# Altium integrated library Lattice SPLD GAL.IntLib: 360 symbols (part 4 of 9)
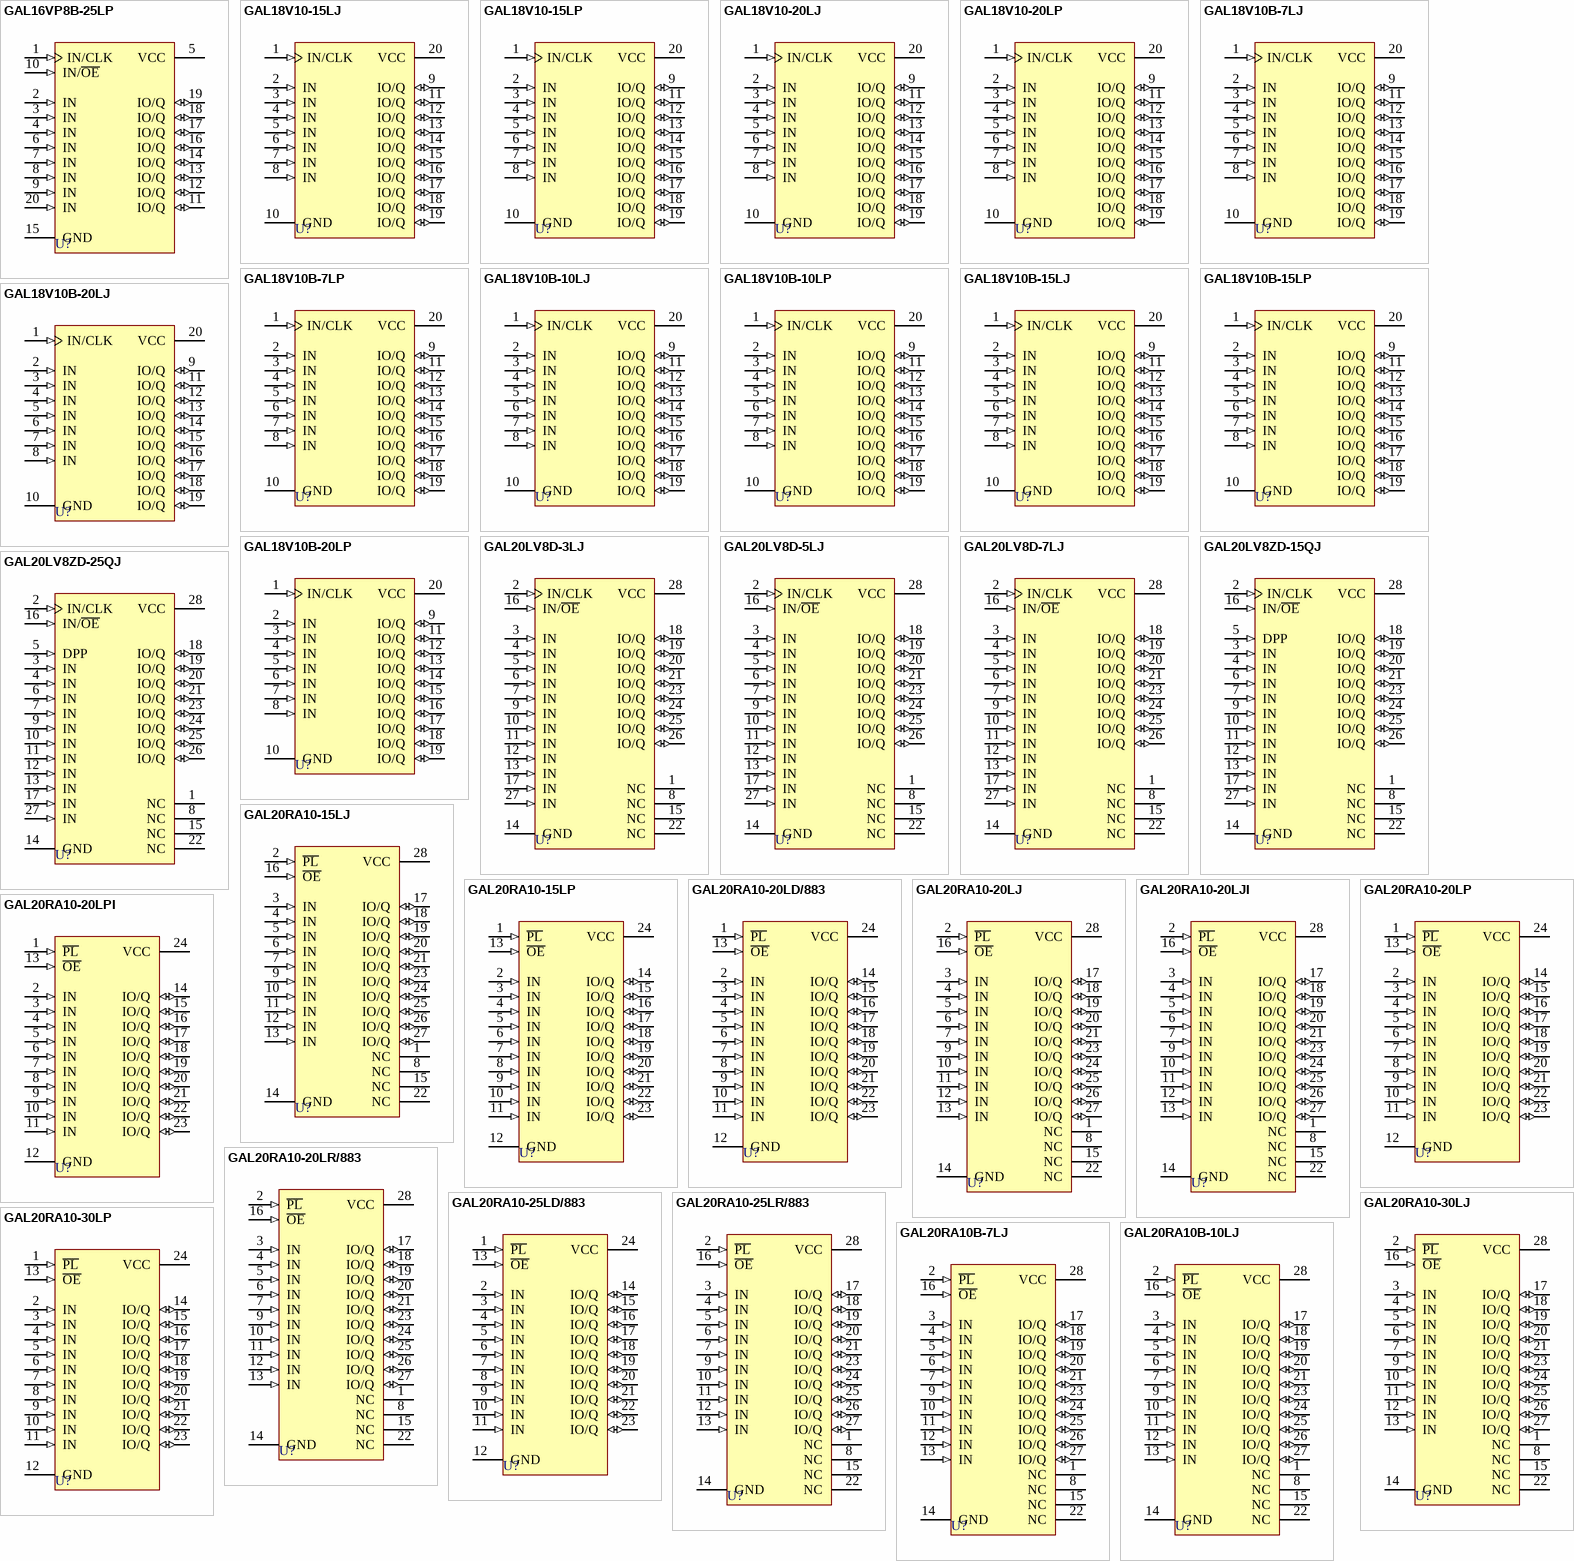
[diagram p16: symbols GAL16VP8B-25LP to GAL20RA10B-10LJ]

## GAL20LV8D-3LJ
designator U?
GAL20LV8 E²CMOS PLD Generic Array Logic: 3.3 V, 3.5 ns, Commercial Grade; Published: 17-Jul-2002; LatestRevisionDate: 13-Apr-2006; LatestRevisionNote: IPC-7351 Footprint Added.; DatasheetVersion: 20lv8_05, Mar-2000; PackageVersion: pkg_32, Aug-2005; PackageReference: PLCC28; Publisher: Altium Limited; PackageDescription: 28-Pin Leaded Chip Carrier 1.27 mm Pitch; Code_IPC: PLCC-28; ComponentLink1Description: Manufacturer Link; ComponentLink1URL: http://www.latticesemi.com/products/spld/GAL/index.cfm; ComponentLink2Description: Datasheet; ComponentLink2URL: http://www.latticesemi.com/lit/docs/datasheets/pal_gal/20lv8.pdf
footprint PLCC28_N (Leaded Chip Carrier, 28-Leads, Body 11.5x11.5mm, Pitch 1.27mm, IPC Medium Density)
footprint PLCC28_L (Leaded Chip Carrier, 28-Leads, Body 11.5x11.5mm, Pitch 1.27mm, IPC High Density)
footprint PLCC28_M (Leaded Chip Carrier, 28-Leads, Body 11.5x11.5mm, Pitch 1.27mm, IPC Low Density)
3D model 20LV8-PLCC28 (28-Pin Leaded Chip Carrier 1.27 mm Pitch)
pins: 1 NC, 2 IN/CLK (in), 3 IN (in), 4 IN (in), 5 IN (in), 6 IN (in), 7 IN (in), 8 NC, 9 IN (in), 10 IN (in), 11 IN (in), 12 IN (in), 13 IN (in), 14 GND (power), 15 NC, 16 IN/~{OE} (in), 17 IN (in), 18 IO/Q (io), 19 IO/Q (io), 20 IO/Q (io), 21 IO/Q (io), 22 NC, 23 IO/Q (io), 24 IO/Q (io), 25 IO/Q (io), 26 IO/Q (io), 27 IN (in), 28 VCC (power)

## GAL20LV8D-5LJ
designator U?
GAL20LV8 E²CMOS PLD Generic Array Logic: 3.3 V, 5.0 ns, Commercial Grade; Published: 17-Jul-2002; LatestRevisionDate: 13-Apr-2006; LatestRevisionNote: IPC-7351 Footprint Added.; DatasheetVersion: 20lv8_05, Mar-2000; PackageVersion: pkg_32, Aug-2005; PackageReference: PLCC28; Publisher: Altium Limited; PackageDescription: 28-Pin Leaded Chip Carrier 1.27 mm Pitch; Code_IPC: PLCC-28; ComponentLink1Description: Manufacturer Link; ComponentLink1URL: http://www.latticesemi.com/products/spld/GAL/index.cfm; ComponentLink2Description: Datasheet; ComponentLink2URL: http://www.latticesemi.com/lit/docs/datasheets/pal_gal/20lv8.pdf
footprint PLCC28_N (Leaded Chip Carrier, 28-Leads, Body 11.5x11.5mm, Pitch 1.27mm, IPC Medium Density)
footprint PLCC28_L (Leaded Chip Carrier, 28-Leads, Body 11.5x11.5mm, Pitch 1.27mm, IPC High Density)
footprint PLCC28_M (Leaded Chip Carrier, 28-Leads, Body 11.5x11.5mm, Pitch 1.27mm, IPC Low Density)
3D model 20LV8-PLCC28 (28-Pin Leaded Chip Carrier 1.27 mm Pitch)
pins: 1 NC, 2 IN/CLK (in), 3 IN (in), 4 IN (in), 5 IN (in), 6 IN (in), 7 IN (in), 8 NC, 9 IN (in), 10 IN (in), 11 IN (in), 12 IN (in), 13 IN (in), 14 GND (power), 15 NC, 16 IN/~{OE} (in), 17 IN (in), 18 IO/Q (io), 19 IO/Q (io), 20 IO/Q (io), 21 IO/Q (io), 22 NC, 23 IO/Q (io), 24 IO/Q (io), 25 IO/Q (io), 26 IO/Q (io), 27 IN (in), 28 VCC (power)

## GAL20LV8D-7LJ
designator U?
GAL20LV8 E²CMOS PLD Generic Array Logic: 3.3 V, 7.5 ns, Commercial Grade; Published: 17-Jul-2002; LatestRevisionDate: 13-Apr-2006; LatestRevisionNote: IPC-7351 Footprint Added.; DatasheetVersion: 20lv8_05, Mar-2000; PackageVersion: pkg_32, Aug-2005; PackageReference: PLCC28; Publisher: Altium Limited; PackageDescription: 28-Pin Leaded Chip Carrier 1.27 mm Pitch; Code_IPC: PLCC-28; ComponentLink1Description: Manufacturer Link; ComponentLink1URL: http://www.latticesemi.com/products/spld/GAL/index.cfm; ComponentLink2Description: Datasheet; ComponentLink2URL: http://www.latticesemi.com/lit/docs/datasheets/pal_gal/20lv8.pdf
footprint PLCC28_N (Leaded Chip Carrier, 28-Leads, Body 11.5x11.5mm, Pitch 1.27mm, IPC Medium Density)
footprint PLCC28_L (Leaded Chip Carrier, 28-Leads, Body 11.5x11.5mm, Pitch 1.27mm, IPC High Density)
footprint PLCC28_M (Leaded Chip Carrier, 28-Leads, Body 11.5x11.5mm, Pitch 1.27mm, IPC Low Density)
3D model 20LV8-PLCC28 (28-Pin Leaded Chip Carrier 1.27 mm Pitch)
pins: 1 NC, 2 IN/CLK (in), 3 IN (in), 4 IN (in), 5 IN (in), 6 IN (in), 7 IN (in), 8 NC, 9 IN (in), 10 IN (in), 11 IN (in), 12 IN (in), 13 IN (in), 14 GND (power), 15 NC, 16 IN/~{OE} (in), 17 IN (in), 18 IO/Q (io), 19 IO/Q (io), 20 IO/Q (io), 21 IO/Q (io), 22 NC, 23 IO/Q (io), 24 IO/Q (io), 25 IO/Q (io), 26 IO/Q (io), 27 IN (in), 28 VCC (power)

## GAL20LV8ZD-15QJ
designator U?
GAL20LV8ZD E²CMOS PLD Generic Array Logic: Zero Power, 3.3 V, 15 ns, Commercial Grade; Published: 17-Jul-2002; LatestRevisionDate: 13-Apr-2006; LatestRevisionNote: IPC-7351 Footprint Added.; DatasheetVersion: 20lv8zd_03, Dec-1997; PackageVersion: pkg_32, Aug-2005; PackageReference: PLCC28; Publisher: Altium Limited; PackageDescription: 28-Pin Leaded Chip Carrier 1.27 mm Pitch; Code_IPC: PLCC-28; ComponentLink1Description: Manufacturer Link; ComponentLink1URL: http://www.latticesemi.com/products/spld/GAL/index.cfm; ComponentLink2Description: Datasheet; ComponentLink2URL: http://www.latticesemi.com/lit/docs/datasheets/pal_gal/16lv8zd.pdf
footprint PLCC28_N (Leaded Chip Carrier, 28-Leads, Body 11.5x11.5mm, Pitch 1.27mm, IPC Medium Density)
footprint PLCC28_L (Leaded Chip Carrier, 28-Leads, Body 11.5x11.5mm, Pitch 1.27mm, IPC High Density)
footprint PLCC28_M (Leaded Chip Carrier, 28-Leads, Body 11.5x11.5mm, Pitch 1.27mm, IPC Low Density)
3D model 20LV8ZD-PLCC28 (28-Pin Leaded Chip Carrier 1.27 mm Pitch)
pins: 1 NC, 2 IN/CLK (in), 3 IN (in), 4 IN (in), 5 DPP (in), 6 IN (in), 7 IN (in), 8 NC, 9 IN (in), 10 IN (in), 11 IN (in), 12 IN (in), 13 IN (in), 14 GND (power), 15 NC, 16 IN/~{OE} (in), 17 IN (in), 18 IO/Q (io), 19 IO/Q (io), 20 IO/Q (io), 21 IO/Q (io), 22 NC, 23 IO/Q (io), 24 IO/Q (io), 25 IO/Q (io), 26 IO/Q (io), 27 IN (in), 28 VCC (power)

## GAL20LV8ZD-25QJ
designator U?
GAL20LV8ZD E²CMOS PLD Generic Array Logic: Zero Power, 3.3 V, 25 ns, Commercial Grade; Published: 17-Jul-2002; LatestRevisionDate: 13-Apr-2006; LatestRevisionNote: IPC-7351 Footprint Added.; DatasheetVersion: 20lv8zd_03, Dec-1997; PackageVersion: pkg_32, Aug-2005; PackageReference: PLCC28; Publisher: Altium Limited; PackageDescription: 28-Pin Leaded Chip Carrier 1.27 mm Pitch; Code_IPC: PLCC-28; ComponentLink1Description: Manufacturer Link; ComponentLink1URL: http://www.latticesemi.com/products/spld/GAL/index.cfm; ComponentLink2Description: Datasheet; ComponentLink2URL: http://www.latticesemi.com/lit/docs/datasheets/pal_gal/16lv8zd.pdf
footprint PLCC28_N (Leaded Chip Carrier, 28-Leads, Body 11.5x11.5mm, Pitch 1.27mm, IPC Medium Density)
footprint PLCC28_L (Leaded Chip Carrier, 28-Leads, Body 11.5x11.5mm, Pitch 1.27mm, IPC High Density)
footprint PLCC28_M (Leaded Chip Carrier, 28-Leads, Body 11.5x11.5mm, Pitch 1.27mm, IPC Low Density)
3D model 20LV8ZD-PLCC28 (28-Pin Leaded Chip Carrier 1.27 mm Pitch)
pins: 1 NC, 2 IN/CLK (in), 3 IN (in), 4 IN (in), 5 DPP (in), 6 IN (in), 7 IN (in), 8 NC, 9 IN (in), 10 IN (in), 11 IN (in), 12 IN (in), 13 IN (in), 14 GND (power), 15 NC, 16 IN/~{OE} (in), 17 IN (in), 18 IO/Q (io), 19 IO/Q (io), 20 IO/Q (io), 21 IO/Q (io), 22 NC, 23 IO/Q (io), 24 IO/Q (io), 25 IO/Q (io), 26 IO/Q (io), 27 IN (in), 28 VCC (power)

## GAL20RA10-15LJ
designator U?
GAL20RA10 High Speed Asynchronous E²CMOS PLD Generic Array Logic: 5.0 V, 15 ns, Commercial Grade; Note: Pins 1, 8, 15 and 22 are No internal Connection (NC) pins.; Published: 8-Jun-2000; LatestRevisionDate: 13-Apr-2006; LatestRevisionNote: IPC-7351 Footprint Added.; DatasheetVersion: 1994; PackageVersion: pkg_32, Aug-2005; PackageReference: PLCC28; Publisher: Altium Limited; PackageDescription: 28-Pin Leaded Chip Carrier 1.27 mm Pitch; Code_IPC: PLCC-28; ComponentLink1Description: Manufacturer Link; ComponentLink1URL: http://www.latticesemi.com/products/spld/GAL/index.cfm
footprint PLCC28_N (Leaded Chip Carrier, 28-Leads, Body 11.5x11.5mm, Pitch 1.27mm, IPC Medium Density)
footprint PLCC28_L (Leaded Chip Carrier, 28-Leads, Body 11.5x11.5mm, Pitch 1.27mm, IPC High Density)
footprint PLCC28_M (Leaded Chip Carrier, 28-Leads, Body 11.5x11.5mm, Pitch 1.27mm, IPC Low Density)
3D model 20RA10-PLCC28 (28-Pin Leaded Chip Carrier 1.27 mm Pitch)
pins: 1 NC, 2 ~{PL} (in), 3 IN (in), 4 IN (in), 5 IN (in), 6 IN (in), 7 IN (in), 8 NC, 9 IN (in), 10 IN (in), 11 IN (in), 12 IN (in), 13 IN (in), 14 GND (power), 15 NC, 16 ~{OE} (in), 17 IO/Q (io), 18 IO/Q (io), 19 IO/Q (io), 20 IO/Q (io), 21 IO/Q (io), 22 NC, 23 IO/Q (io), 24 IO/Q (io), 25 IO/Q (io), 26 IO/Q (io), 27 IO/Q (io), 28 VCC (power)

## GAL20RA10-15LP
designator U?
GAL20RA10 High Speed Asynchronous E²CMOS PLD Generic Array Logic: 5.0 V, 15 ns, Commercial Grade; Published: 8-Jun-2000; LatestRevisionDate: 04-Mar-2005; LatestRevisionNote: Stylized 3D Model Added.; DatasheetVersion: 1994; PackageVersion: pkg_32, Aug-2005; PackageReference: PDIP24; Publisher: Altium Limited; PackageDescription: DIP; 24 Leads; Row Spacing 7.62 mm; Pitch 2.54 mm; Code_JEDEC: MS-001-AF; ComponentLink1Description: Manufacturer Link; ComponentLink1URL: http://www.latticesemi.com/products/spld/GAL/index.cfm
footprint PDIP24 (DIP; 24 Leads; Row Spacing 7.62 mm; Pitch 2.54 mm)
3D model DIP24 (DIP; 24 Leads; Row Spacing 7.62 mm; Pitch 2.54 mm)
pins: 1 ~{PL} (in), 2 IN (in), 3 IN (in), 4 IN (in), 5 IN (in), 6 IN (in), 7 IN (in), 8 IN (in), 9 IN (in), 10 IN (in), 11 IN (in), 12 GND (power), 13 ~{OE} (in), 14 IO/Q (io), 15 IO/Q (io), 16 IO/Q (io), 17 IO/Q (io), 18 IO/Q (io), 19 IO/Q (io), 20 IO/Q (io), 21 IO/Q (io), 22 IO/Q (io), 23 IO/Q (io), 24 VCC (power)

## GAL20RA10-20LD/883
designator U?
GAL20RA10/883 High Speed Asynchronous E²CMOS PLD Generic Array Logic: 5.0 V, 20 ns, Military Grade; Published: 8-Jun-2000; LatestRevisionDate: 04-Mar-2005; LatestRevisionNote: Stylized 3D Model Added.; DatasheetVersion: May-1992; PackageVersion: pkg_32, Aug-2005; PackageReference: CDIP24; Publisher: Altium Limited; PackageDescription: CerDIP; 24 Leads; Row Spacing 7.62 mm; Pitch 2.54 mm; Code_JEDEC: MS-001-AF; ComponentLink1Description: Manufacturer Link; ComponentLink1URL: http://www.latticesemi.com/products/spld/GAL/index.cfm
footprint CDIP24 (CerDIP; 24 Leads; Row Spacing 7.62 mm; Pitch 2.54 mm)
3D model DIP24 (CerDIP; 24 Leads; Row Spacing 7.62 mm; Pitch 2.54 mm)
pins: 1 ~{PL} (in), 2 IN (in), 3 IN (in), 4 IN (in), 5 IN (in), 6 IN (in), 7 IN (in), 8 IN (in), 9 IN (in), 10 IN (in), 11 IN (in), 12 GND (power), 13 ~{OE} (in), 14 IO/Q (io), 15 IO/Q (io), 16 IO/Q (io), 17 IO/Q (io), 18 IO/Q (io), 19 IO/Q (io), 20 IO/Q (io), 21 IO/Q (io), 22 IO/Q (io), 23 IO/Q (io), 24 VCC (power)

## GAL20RA10-20LJ
designator U?
GAL20RA10 High Speed Asynchronous E²CMOS PLD Generic Array Logic: 5.0 V, 20 ns, Commercial Grade; Note: Pins 1, 8, 15 and 22 are No internal Connection (NC) pins.; Published: 8-Jun-2000; LatestRevisionDate: 13-Apr-2006; LatestRevisionNote: IPC-7351 Footprint Added.; DatasheetVersion: 1994; PackageVersion: pkg_32, Aug-2005; PackageReference: PLCC28; Publisher: Altium Limited; PackageDescription: 28-Pin Leaded Chip Carrier 1.27 mm Pitch; Code_IPC: PLCC-28; ComponentLink1Description: Manufacturer Link; ComponentLink1URL: http://www.latticesemi.com/products/spld/GAL/index.cfm
footprint PLCC28_N (Leaded Chip Carrier, 28-Leads, Body 11.5x11.5mm, Pitch 1.27mm, IPC Medium Density)
footprint PLCC28_L (Leaded Chip Carrier, 28-Leads, Body 11.5x11.5mm, Pitch 1.27mm, IPC High Density)
footprint PLCC28_M (Leaded Chip Carrier, 28-Leads, Body 11.5x11.5mm, Pitch 1.27mm, IPC Low Density)
3D model 20RA10-PLCC28 (28-Pin Leaded Chip Carrier 1.27 mm Pitch)
pins: 1 NC, 2 ~{PL} (in), 3 IN (in), 4 IN (in), 5 IN (in), 6 IN (in), 7 IN (in), 8 NC, 9 IN (in), 10 IN (in), 11 IN (in), 12 IN (in), 13 IN (in), 14 GND (power), 15 NC, 16 ~{OE} (in), 17 IO/Q (io), 18 IO/Q (io), 19 IO/Q (io), 20 IO/Q (io), 21 IO/Q (io), 22 NC, 23 IO/Q (io), 24 IO/Q (io), 25 IO/Q (io), 26 IO/Q (io), 27 IO/Q (io), 28 VCC (power)

## GAL20RA10-20LJI
designator U?
GAL20RA10 High Speed Asynchronous E²CMOS PLD Generic Array Logic: 5.0 V, 15 ns, Industrial Grade; Note: Pins 1, 8, 15 and 22 are No internal Connection (NC) pins.; Published: 8-Jun-2000; LatestRevisionDate: 13-Apr-2006; LatestRevisionNote: IPC-7351 Footprint Added.; DatasheetVersion: 1994; PackageVersion: pkg_32, Aug-2005; PackageReference: PLCC28; Publisher: Altium Limited; PackageDescription: 28-Pin Leaded Chip Carrier 1.27 mm Pitch; Code_IPC: PLCC-28; ComponentLink1Description: Manufacturer Link; ComponentLink1URL: http://www.latticesemi.com/products/spld/GAL/index.cfm
footprint PLCC28_N (Leaded Chip Carrier, 28-Leads, Body 11.5x11.5mm, Pitch 1.27mm, IPC Medium Density)
footprint PLCC28_L (Leaded Chip Carrier, 28-Leads, Body 11.5x11.5mm, Pitch 1.27mm, IPC High Density)
footprint PLCC28_M (Leaded Chip Carrier, 28-Leads, Body 11.5x11.5mm, Pitch 1.27mm, IPC Low Density)
3D model 20RA10-PLCC28 (28-Pin Leaded Chip Carrier 1.27 mm Pitch)
pins: 1 NC, 2 ~{PL} (in), 3 IN (in), 4 IN (in), 5 IN (in), 6 IN (in), 7 IN (in), 8 NC, 9 IN (in), 10 IN (in), 11 IN (in), 12 IN (in), 13 IN (in), 14 GND (power), 15 NC, 16 ~{OE} (in), 17 IO/Q (io), 18 IO/Q (io), 19 IO/Q (io), 20 IO/Q (io), 21 IO/Q (io), 22 NC, 23 IO/Q (io), 24 IO/Q (io), 25 IO/Q (io), 26 IO/Q (io), 27 IO/Q (io), 28 VCC (power)

## GAL20RA10-20LP
designator U?
GAL20RA10 High Speed Asynchronous E²CMOS PLD Generic Array Logic: 5.0 V, 20 ns, Commercial Grade; Published: 8-Jun-2000; LatestRevisionDate: 04-Mar-2005; LatestRevisionNote: Stylized 3D Model Added.; DatasheetVersion: 1994; PackageVersion: pkg_32, Aug-2005; PackageReference: PDIP24; Publisher: Altium Limited; PackageDescription: DIP; 24 Leads; Row Spacing 7.62 mm; Pitch 2.54 mm; Code_JEDEC: MS-001-AF; ComponentLink1Description: Manufacturer Link; ComponentLink1URL: http://www.latticesemi.com/products/spld/GAL/index.cfm
footprint PDIP24 (DIP; 24 Leads; Row Spacing 7.62 mm; Pitch 2.54 mm)
3D model DIP24 (DIP; 24 Leads; Row Spacing 7.62 mm; Pitch 2.54 mm)
pins: 1 ~{PL} (in), 2 IN (in), 3 IN (in), 4 IN (in), 5 IN (in), 6 IN (in), 7 IN (in), 8 IN (in), 9 IN (in), 10 IN (in), 11 IN (in), 12 GND (power), 13 ~{OE} (in), 14 IO/Q (io), 15 IO/Q (io), 16 IO/Q (io), 17 IO/Q (io), 18 IO/Q (io), 19 IO/Q (io), 20 IO/Q (io), 21 IO/Q (io), 22 IO/Q (io), 23 IO/Q (io), 24 VCC (power)

## GAL20RA10-20LPI
designator U?
GAL20RA10 High Speed Asynchronous E²CMOS PLD Generic Array Logic: 5.0 V, 20 ns, Industrial Grade; Published: 8-Jun-2000; LatestRevisionDate: 04-Mar-2005; LatestRevisionNote: Stylized 3D Model Added.; DatasheetVersion: 1994; PackageVersion: pkg_32, Aug-2005; PackageReference: PDIP24; Publisher: Altium Limited; PackageDescription: DIP; 24 Leads; Row Spacing 7.62 mm; Pitch 2.54 mm; Code_JEDEC: MS-001-AF; ComponentLink1Description: Manufacturer Link; ComponentLink1URL: http://www.latticesemi.com/products/spld/GAL/index.cfm
footprint PDIP24 (DIP; 24 Leads; Row Spacing 7.62 mm; Pitch 2.54 mm)
3D model DIP24 (DIP; 24 Leads; Row Spacing 7.62 mm; Pitch 2.54 mm)
pins: 1 ~{PL} (in), 2 IN (in), 3 IN (in), 4 IN (in), 5 IN (in), 6 IN (in), 7 IN (in), 8 IN (in), 9 IN (in), 10 IN (in), 11 IN (in), 12 GND (power), 13 ~{OE} (in), 14 IO/Q (io), 15 IO/Q (io), 16 IO/Q (io), 17 IO/Q (io), 18 IO/Q (io), 19 IO/Q (io), 20 IO/Q (io), 21 IO/Q (io), 22 IO/Q (io), 23 IO/Q (io), 24 VCC (power)

## GAL20RA10-20LR/883
designator U?
GAL20RA10/883 High Speed Asynchronous E²CMOS PLD Generic Array Logic: 5.0 V, 20 ns, Military Grade; Note: Pins 1, 8, 15 and 22 are No internal Connection (NC) pins.; Published: 8-Jun-2000; LatestRevisionDate: 17-Jul-2002; LatestRevisionNote: Name changed from GAL20RA10-20LR/883C; Re-released for DXP Platform.; DatasheetVersion: May-1992; PackageVersion: pkg_32, Aug-2005; PackageReference: LCC28; Publisher: Altium Limited; PackageDescription: Leadless Chip Carrier; 28 Terminals; Body 11.5 x 11.5 mm; ComponentLink1Description: Manufacturer Link; ComponentLink1URL: http://www.latticesemi.com/products/spld/GAL/index.cfm
footprint LCC28 (Leadless Chip Carrier; 28 Terminals; Body 11.5 x 11.5 mm)
pins: 1 NC, 2 ~{PL} (in), 3 IN (in), 4 IN (in), 5 IN (in), 6 IN (in), 7 IN (in), 8 NC, 9 IN (in), 10 IN (in), 11 IN (in), 12 IN (in), 13 IN (in), 14 GND (power), 15 NC, 16 ~{OE} (in), 17 IO/Q (io), 18 IO/Q (io), 19 IO/Q (io), 20 IO/Q (io), 21 IO/Q (io), 22 NC, 23 IO/Q (io), 24 IO/Q (io), 25 IO/Q (io), 26 IO/Q (io), 27 IO/Q (io), 28 VCC (power)

## GAL20RA10-25LD/883
designator U?
GAL20RA10/883 High Speed Asynchronous E²CMOS PLD Generic Array Logic: 5.0 V, 25 ns, Military Grade; Published: 8-Jun-2000; LatestRevisionDate: 04-Mar-2005; LatestRevisionNote: Stylized 3D Model Added.; DatasheetVersion: May-1992; PackageVersion: pkg_32, Aug-2005; PackageReference: CDIP24; Publisher: Altium Limited; PackageDescription: CerDIP; 24 Leads; Row Spacing 7.62 mm; Pitch 2.54 mm; Code_JEDEC: MS-001-AF; ComponentLink1Description: Manufacturer Link; ComponentLink1URL: http://www.latticesemi.com/products/spld/GAL/index.cfm
footprint CDIP24 (CerDIP; 24 Leads; Row Spacing 7.62 mm; Pitch 2.54 mm)
3D model DIP24 (CerDIP; 24 Leads; Row Spacing 7.62 mm; Pitch 2.54 mm)
pins: 1 ~{PL} (in), 2 IN (in), 3 IN (in), 4 IN (in), 5 IN (in), 6 IN (in), 7 IN (in), 8 IN (in), 9 IN (in), 10 IN (in), 11 IN (in), 12 GND (power), 13 ~{OE} (in), 14 IO/Q (io), 15 IO/Q (io), 16 IO/Q (io), 17 IO/Q (io), 18 IO/Q (io), 19 IO/Q (io), 20 IO/Q (io), 21 IO/Q (io), 22 IO/Q (io), 23 IO/Q (io), 24 VCC (power)

## GAL20RA10-25LR/883
designator U?
GAL20RA10/883 High Speed Asynchronous E²CMOS PLD Generic Array Logic: 5.0 V, 25 ns, Military Grade; Note: Pins 1, 8, 15 and 22 are No internal Connection (NC) pins.; Published: 8-Jun-2000; LatestRevisionDate: 17-Jul-2002; LatestRevisionNote: Name changed from GAL20RA10-25LR/883C; Re-released for DXP Platform.; DatasheetVersion: May-1992; PackageVersion: pkg_32, Aug-2005; PackageReference: LCC28; Publisher: Altium Limited; PackageDescription: Leadless Chip Carrier; 28 Terminals; Body 11.5 x 11.5 mm; ComponentLink1Description: Manufacturer Link; ComponentLink1URL: http://www.latticesemi.com/products/spld/GAL/index.cfm
footprint LCC28 (Leadless Chip Carrier; 28 Terminals; Body 11.5 x 11.5 mm)
pins: 1 NC, 2 ~{PL} (in), 3 IN (in), 4 IN (in), 5 IN (in), 6 IN (in), 7 IN (in), 8 NC, 9 IN (in), 10 IN (in), 11 IN (in), 12 IN (in), 13 IN (in), 14 GND (power), 15 NC, 16 ~{OE} (in), 17 IO/Q (io), 18 IO/Q (io), 19 IO/Q (io), 20 IO/Q (io), 21 IO/Q (io), 22 NC, 23 IO/Q (io), 24 IO/Q (io), 25 IO/Q (io), 26 IO/Q (io), 27 IO/Q (io), 28 VCC (power)

## GAL20RA10-30LJ
designator U?
GAL20RA10 High Speed Asynchronous E²CMOS PLD Generic Array Logic: 5.0 V, 30 ns, Commercial Grade; Note: Pins 1, 8, 15 and 22 are No internal Connection (NC) pins.; Published: 8-Jun-2000; LatestRevisionDate: 13-Apr-2006; LatestRevisionNote: IPC-7351 Footprint Added.; DatasheetVersion: 1994; PackageVersion: pkg_32, Aug-2005; PackageReference: PLCC28; Publisher: Altium Limited; PackageDescription: 28-Pin Leaded Chip Carrier 1.27 mm Pitch; Code_IPC: PLCC-28; ComponentLink1Description: Manufacturer Link; ComponentLink1URL: http://www.latticesemi.com/products/spld/GAL/index.cfm
footprint PLCC28_N (Leaded Chip Carrier, 28-Leads, Body 11.5x11.5mm, Pitch 1.27mm, IPC Medium Density)
footprint PLCC28_L (Leaded Chip Carrier, 28-Leads, Body 11.5x11.5mm, Pitch 1.27mm, IPC High Density)
footprint PLCC28_M (Leaded Chip Carrier, 28-Leads, Body 11.5x11.5mm, Pitch 1.27mm, IPC Low Density)
3D model 20RA10-PLCC28 (28-Pin Leaded Chip Carrier 1.27 mm Pitch)
pins: 1 NC, 2 ~{PL} (in), 3 IN (in), 4 IN (in), 5 IN (in), 6 IN (in), 7 IN (in), 8 NC, 9 IN (in), 10 IN (in), 11 IN (in), 12 IN (in), 13 IN (in), 14 GND (power), 15 NC, 16 ~{OE} (in), 17 IO/Q (io), 18 IO/Q (io), 19 IO/Q (io), 20 IO/Q (io), 21 IO/Q (io), 22 NC, 23 IO/Q (io), 24 IO/Q (io), 25 IO/Q (io), 26 IO/Q (io), 27 IO/Q (io), 28 VCC (power)

## GAL20RA10-30LP
designator U?
GAL20RA10 High Speed Asynchronous E²CMOS PLD Generic Array Logic: 5.0 V, 30 ns, Commercial Grade; Published: 8-Jun-2000; LatestRevisionDate: 04-Mar-2005; LatestRevisionNote: Stylized 3D Model Added.; DatasheetVersion: 1994; PackageVersion: pkg_32, Aug-2005; PackageReference: PDIP24; Publisher: Altium Limited; PackageDescription: DIP; 24 Leads; Row Spacing 7.62 mm; Pitch 2.54 mm; Code_JEDEC: MS-001-AF; ComponentLink1Description: Manufacturer Link; ComponentLink1URL: http://www.latticesemi.com/products/spld/GAL/index.cfm
footprint PDIP24 (DIP; 24 Leads; Row Spacing 7.62 mm; Pitch 2.54 mm)
3D model DIP24 (DIP; 24 Leads; Row Spacing 7.62 mm; Pitch 2.54 mm)
pins: 1 ~{PL} (in), 2 IN (in), 3 IN (in), 4 IN (in), 5 IN (in), 6 IN (in), 7 IN (in), 8 IN (in), 9 IN (in), 10 IN (in), 11 IN (in), 12 GND (power), 13 ~{OE} (in), 14 IO/Q (io), 15 IO/Q (io), 16 IO/Q (io), 17 IO/Q (io), 18 IO/Q (io), 19 IO/Q (io), 20 IO/Q (io), 21 IO/Q (io), 22 IO/Q (io), 23 IO/Q (io), 24 VCC (power)

## GAL20RA10B-7LJ
designator U?
GAL20RA10 High Speed Asynchronous E²CMOS PLD Generic Array Logic: 5.0 V, 7.5 ns, Commercial Grade; Published: 17-Jul-2002; LatestRevisionDate: 13-Apr-2006; LatestRevisionNote: IPC-7351 Footprint Added.; DatasheetVersion: 20ra10_02, Jul-1997; PackageVersion: pkg_32, Aug-2005; PackageReference: PLCC28; Publisher: Altium Limited; PackageDescription: 28-Pin Leaded Chip Carrier 1.27 mm Pitch; Code_IPC: PLCC-28; ComponentLink1Description: Manufacturer Link; ComponentLink1URL: http://www.latticesemi.com/products/spld/GAL/index.cfm; ComponentLink2Description: Datasheet; ComponentLink2URL: http://www.latticesemi.com/lit/docs/datasheets/pal_gal/20ra10.pdf
footprint PLCC28_N (Leaded Chip Carrier, 28-Leads, Body 11.5x11.5mm, Pitch 1.27mm, IPC Medium Density)
footprint PLCC28_L (Leaded Chip Carrier, 28-Leads, Body 11.5x11.5mm, Pitch 1.27mm, IPC High Density)
footprint PLCC28_M (Leaded Chip Carrier, 28-Leads, Body 11.5x11.5mm, Pitch 1.27mm, IPC Low Density)
3D model 20RA10-PLCC28 (28-Pin Leaded Chip Carrier 1.27 mm Pitch)
pins: 1 NC, 2 ~{PL} (in), 3 IN (in), 4 IN (in), 5 IN (in), 6 IN (in), 7 IN (in), 8 NC, 9 IN (in), 10 IN (in), 11 IN (in), 12 IN (in), 13 IN (in), 14 GND (power), 15 NC, 16 ~{OE} (in), 17 IO/Q (io), 18 IO/Q (io), 19 IO/Q (io), 20 IO/Q (io), 21 IO/Q (io), 22 NC, 23 IO/Q (io), 24 IO/Q (io), 25 IO/Q (io), 26 IO/Q (io), 27 IO/Q (io), 28 VCC (power)

## GAL20RA10B-10LJ
designator U?
GAL20RA10 High Speed Asynchronous E²CMOS PLD Generic Array Logic: 5.0 V, 10 ns, Commercial Grade; Note: Pins 1, 8, 15 and 22 are No internal Connection (NC) pins.; Published: 8-Jun-2000; LatestRevisionDate: 13-Apr-2006; LatestRevisionNote: IPC-7351 Footprint Added.; DatasheetVersion: 20ra10_02, Jul-1997; PackageVersion: pkg_32, Aug-2005; PackageReference: PLCC28; Publisher: Altium Limited; PackageDescription: 28-Pin Leaded Chip Carrier 1.27 mm Pitch; Code_IPC: PLCC-28; ComponentLink1Description: Manufacturer Link; ComponentLink1URL: http://www.latticesemi.com/products/spld/GAL/index.cfm; ComponentLink2Description: Datasheet; ComponentLink2URL: http://www.latticesemi.com/lit/docs/datasheets/pal_gal/20ra10.pdf
footprint PLCC28_N (Leaded Chip Carrier, 28-Leads, Body 11.5x11.5mm, Pitch 1.27mm, IPC Medium Density)
footprint PLCC28_L (Leaded Chip Carrier, 28-Leads, Body 11.5x11.5mm, Pitch 1.27mm, IPC High Density)
footprint PLCC28_M (Leaded Chip Carrier, 28-Leads, Body 11.5x11.5mm, Pitch 1.27mm, IPC Low Density)
3D model 20RA10-PLCC28 (28-Pin Leaded Chip Carrier 1.27 mm Pitch)
pins: 1 NC, 2 ~{PL} (in), 3 IN (in), 4 IN (in), 5 IN (in), 6 IN (in), 7 IN (in), 8 NC, 9 IN (in), 10 IN (in), 11 IN (in), 12 IN (in), 13 IN (in), 14 GND (power), 15 NC, 16 ~{OE} (in), 17 IO/Q (io), 18 IO/Q (io), 19 IO/Q (io), 20 IO/Q (io), 21 IO/Q (io), 22 NC, 23 IO/Q (io), 24 IO/Q (io), 25 IO/Q (io), 26 IO/Q (io), 27 IO/Q (io), 28 VCC (power)

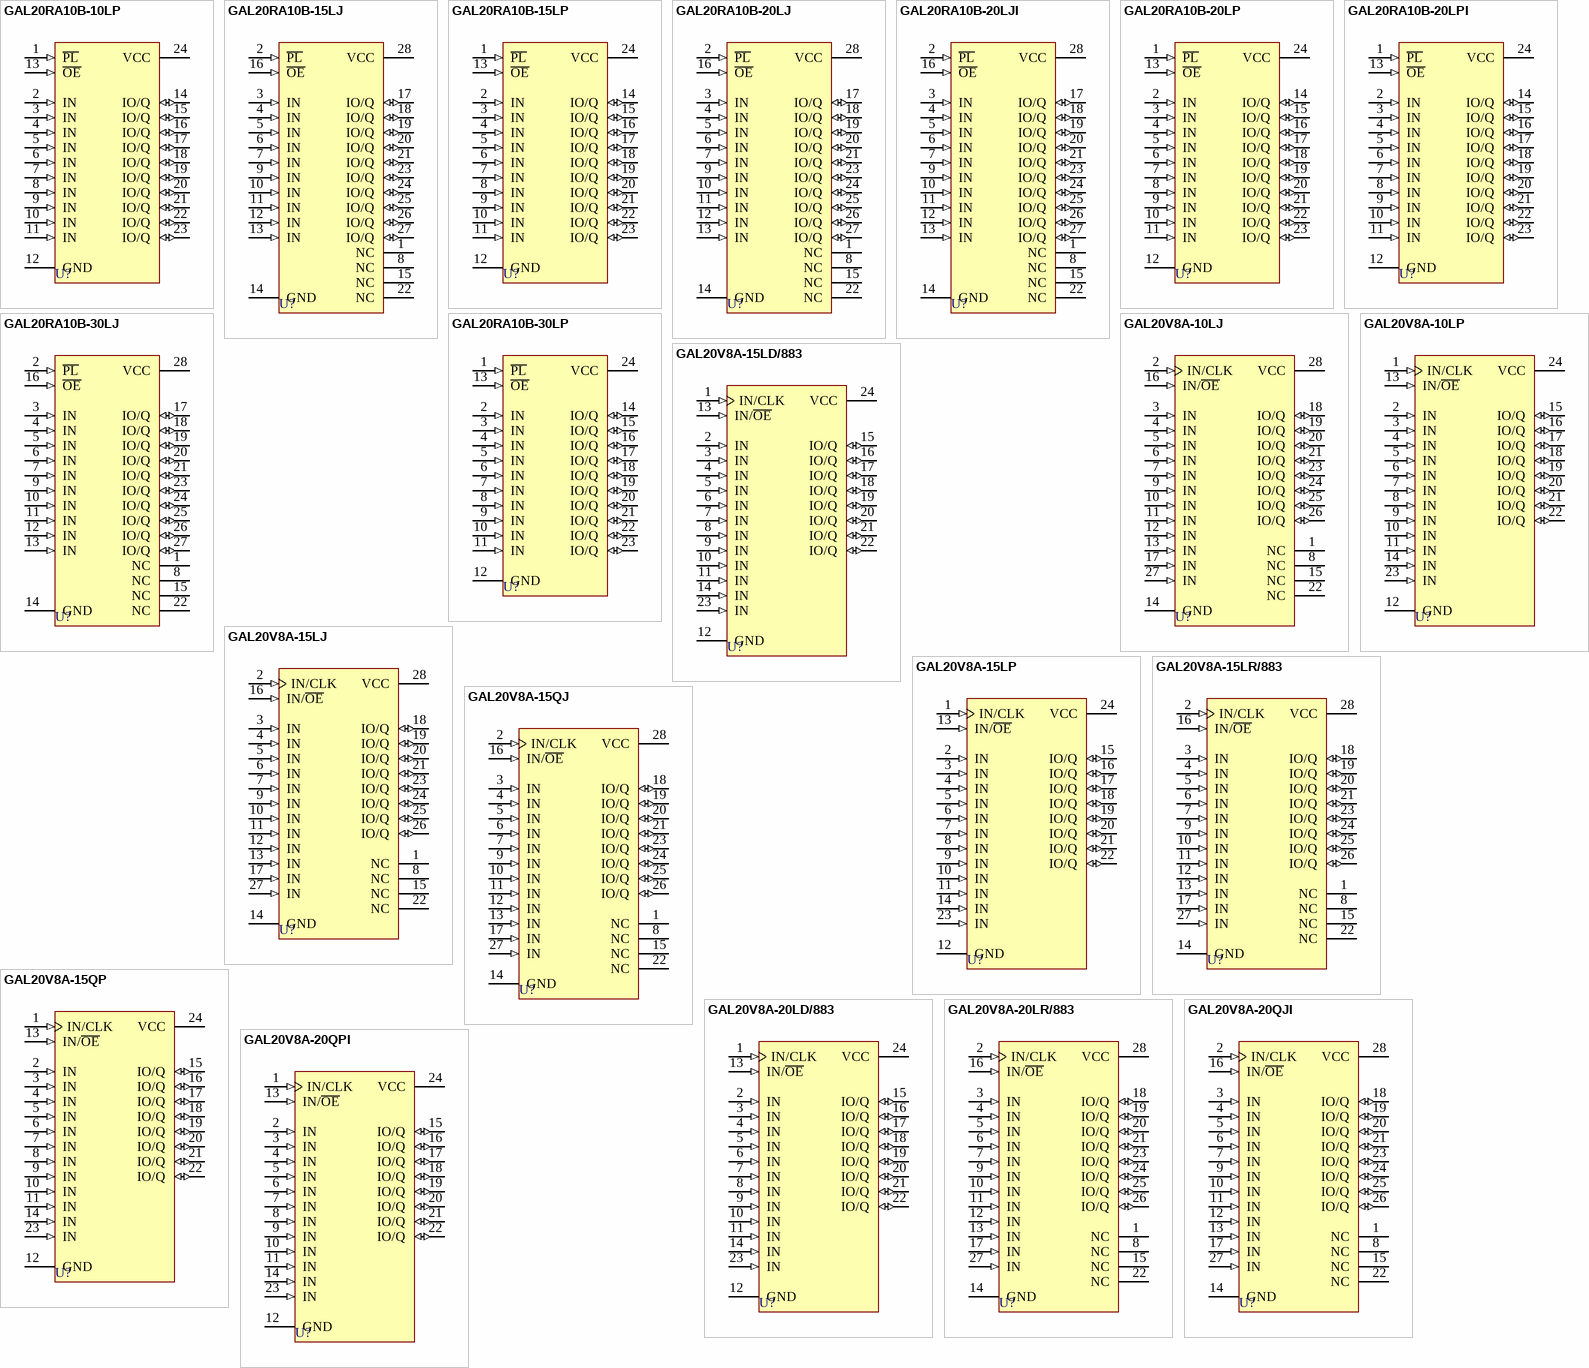
[diagram p5: symbols GAL20RA10B-10LP to GAL20V8A-20QPI]

## GAL20RA10B-10LP
designator U?
GAL20RA10 High Speed Asynchronous E²CMOS PLD Generic Array Logic: 5.0 V, 10 ns, Commercial Grade; Published: 8-Jun-2000; LatestRevisionDate: 04-Mar-2005; LatestRevisionNote: Stylized 3D Model Added.; DatasheetVersion: 20ra10_02, Jul-1997; PackageVersion: pkg_32, Aug-2005; PackageReference: PDIP24; Publisher: Altium Limited; PackageDescription: DIP; 24 Leads; Row Spacing 7.62 mm; Pitch 2.54 mm; Code_JEDEC: MS-001-AF; ComponentLink1Description: Manufacturer Link; ComponentLink1URL: http://www.latticesemi.com/products/spld/GAL/index.cfm; ComponentLink2Description: Datasheet; ComponentLink2URL: http://www.latticesemi.com/lit/docs/datasheets/pal_gal/20ra10.pdf
footprint PDIP24 (DIP; 24 Leads; Row Spacing 7.62 mm; Pitch 2.54 mm)
3D model DIP24 (DIP; 24 Leads; Row Spacing 7.62 mm; Pitch 2.54 mm)
pins: 1 ~{PL} (in), 2 IN (in), 3 IN (in), 4 IN (in), 5 IN (in), 6 IN (in), 7 IN (in), 8 IN (in), 9 IN (in), 10 IN (in), 11 IN (in), 12 GND (power), 13 ~{OE} (in), 14 IO/Q (io), 15 IO/Q (io), 16 IO/Q (io), 17 IO/Q (io), 18 IO/Q (io), 19 IO/Q (io), 20 IO/Q (io), 21 IO/Q (io), 22 IO/Q (io), 23 IO/Q (io), 24 VCC (power)

## GAL20RA10B-15LJ
designator U?
GAL20RA10 High Speed Asynchronous E²CMOS PLD Generic Array Logic: 5.0 V, 15 ns, Commercial Grade; Published: 17-Jul-2002; LatestRevisionDate: 13-Apr-2006; LatestRevisionNote: IPC-7351 Footprint Added.; DatasheetVersion: 20ra10_02, Jul-1997; PackageVersion: pkg_32, Aug-2005; PackageReference: PLCC28; Publisher: Altium Limited; PackageDescription: 28-Pin Leaded Chip Carrier 1.27 mm Pitch; Code_IPC: PLCC-28; ComponentLink1Description: Manufacturer Link; ComponentLink1URL: http://www.latticesemi.com/products/spld/GAL/index.cfm; ComponentLink2Description: Datasheet; ComponentLink2URL: http://www.latticesemi.com/lit/docs/datasheets/pal_gal/20ra10.pdf
footprint PLCC28_N (Leaded Chip Carrier, 28-Leads, Body 11.5x11.5mm, Pitch 1.27mm, IPC Medium Density)
footprint PLCC28_L (Leaded Chip Carrier, 28-Leads, Body 11.5x11.5mm, Pitch 1.27mm, IPC High Density)
footprint PLCC28_M (Leaded Chip Carrier, 28-Leads, Body 11.5x11.5mm, Pitch 1.27mm, IPC Low Density)
3D model 20RA10-PLCC28 (28-Pin Leaded Chip Carrier 1.27 mm Pitch)
pins: 1 NC, 2 ~{PL} (in), 3 IN (in), 4 IN (in), 5 IN (in), 6 IN (in), 7 IN (in), 8 NC, 9 IN (in), 10 IN (in), 11 IN (in), 12 IN (in), 13 IN (in), 14 GND (power), 15 NC, 16 ~{OE} (in), 17 IO/Q (io), 18 IO/Q (io), 19 IO/Q (io), 20 IO/Q (io), 21 IO/Q (io), 22 NC, 23 IO/Q (io), 24 IO/Q (io), 25 IO/Q (io), 26 IO/Q (io), 27 IO/Q (io), 28 VCC (power)

## GAL20RA10B-15LP
designator U?
GAL20RA10 High Speed Asynchronous E²CMOS PLD Generic Array Logic: 5.0 V, 15 ns, Commercial Grade; Published: 17-Jul-2002; LatestRevisionDate: 04-Mar-2005; LatestRevisionNote: Stylized 3D Model Added.; DatasheetVersion: 20ra10_02, Jul-1997; PackageVersion: pkg_32, Aug-2005; PackageReference: PDIP24; Publisher: Altium Limited; PackageDescription: DIP; 24 Leads; Row Spacing 7.62 mm; Pitch 2.54 mm; Code_JEDEC: MS-001-AF; ComponentLink1Description: Manufacturer Link; ComponentLink1URL: http://www.latticesemi.com/products/spld/GAL/index.cfm; ComponentLink2Description: Datasheet; ComponentLink2URL: http://www.latticesemi.com/lit/docs/datasheets/pal_gal/20ra10.pdf
footprint PDIP24 (DIP; 24 Leads; Row Spacing 7.62 mm; Pitch 2.54 mm)
3D model DIP24 (DIP; 24 Leads; Row Spacing 7.62 mm; Pitch 2.54 mm)
pins: 1 ~{PL} (in), 2 IN (in), 3 IN (in), 4 IN (in), 5 IN (in), 6 IN (in), 7 IN (in), 8 IN (in), 9 IN (in), 10 IN (in), 11 IN (in), 12 GND (power), 13 ~{OE} (in), 14 IO/Q (io), 15 IO/Q (io), 16 IO/Q (io), 17 IO/Q (io), 18 IO/Q (io), 19 IO/Q (io), 20 IO/Q (io), 21 IO/Q (io), 22 IO/Q (io), 23 IO/Q (io), 24 VCC (power)

## GAL20RA10B-20LJ
designator U?
GAL20RA10 High Speed Asynchronous E²CMOS PLD Generic Array Logic: 5.0 V, 20 ns, Commercial Grade; Published: 17-Jul-2002; LatestRevisionDate: 13-Apr-2006; LatestRevisionNote: IPC-7351 Footprint Added.; DatasheetVersion: 20ra10_02, Jul-1997; PackageVersion: pkg_32, Aug-2005; PackageReference: PLCC28; Publisher: Altium Limited; PackageDescription: 28-Pin Leaded Chip Carrier 1.27 mm Pitch; Code_IPC: PLCC-28; ComponentLink1Description: Manufacturer Link; ComponentLink1URL: http://www.latticesemi.com/products/spld/GAL/index.cfm; ComponentLink2Description: Datasheet; ComponentLink2URL: http://www.latticesemi.com/lit/docs/datasheets/pal_gal/20ra10.pdf
footprint PLCC28_N (Leaded Chip Carrier, 28-Leads, Body 11.5x11.5mm, Pitch 1.27mm, IPC Medium Density)
footprint PLCC28_L (Leaded Chip Carrier, 28-Leads, Body 11.5x11.5mm, Pitch 1.27mm, IPC High Density)
footprint PLCC28_M (Leaded Chip Carrier, 28-Leads, Body 11.5x11.5mm, Pitch 1.27mm, IPC Low Density)
3D model 20RA10-PLCC28 (28-Pin Leaded Chip Carrier 1.27 mm Pitch)
pins: 1 NC, 2 ~{PL} (in), 3 IN (in), 4 IN (in), 5 IN (in), 6 IN (in), 7 IN (in), 8 NC, 9 IN (in), 10 IN (in), 11 IN (in), 12 IN (in), 13 IN (in), 14 GND (power), 15 NC, 16 ~{OE} (in), 17 IO/Q (io), 18 IO/Q (io), 19 IO/Q (io), 20 IO/Q (io), 21 IO/Q (io), 22 NC, 23 IO/Q (io), 24 IO/Q (io), 25 IO/Q (io), 26 IO/Q (io), 27 IO/Q (io), 28 VCC (power)

## GAL20RA10B-20LJI
designator U?
GAL20RA10 High Speed Asynchronous E²CMOS PLD Generic Array Logic: 5.0 V, 20 ns, Industrial Grade; Published: 17-Jul-2002; LatestRevisionDate: 13-Apr-2006; LatestRevisionNote: IPC-7351 Footprint Added.; DatasheetVersion: 20ra10_02, Jul-1997; PackageVersion: pkg_32, Aug-2005; PackageReference: PLCC28; Publisher: Altium Limited; PackageDescription: 28-Pin Leaded Chip Carrier 1.27 mm Pitch; Code_IPC: PLCC-28; ComponentLink1Description: Manufacturer Link; ComponentLink1URL: http://www.latticesemi.com/products/spld/GAL/index.cfm; ComponentLink2Description: Datasheet; ComponentLink2URL: http://www.latticesemi.com/lit/docs/datasheets/pal_gal/20ra10.pdf
footprint PLCC28_N (Leaded Chip Carrier, 28-Leads, Body 11.5x11.5mm, Pitch 1.27mm, IPC Medium Density)
footprint PLCC28_L (Leaded Chip Carrier, 28-Leads, Body 11.5x11.5mm, Pitch 1.27mm, IPC High Density)
footprint PLCC28_M (Leaded Chip Carrier, 28-Leads, Body 11.5x11.5mm, Pitch 1.27mm, IPC Low Density)
3D model 20RA10-PLCC28 (28-Pin Leaded Chip Carrier 1.27 mm Pitch)
pins: 1 NC, 2 ~{PL} (in), 3 IN (in), 4 IN (in), 5 IN (in), 6 IN (in), 7 IN (in), 8 NC, 9 IN (in), 10 IN (in), 11 IN (in), 12 IN (in), 13 IN (in), 14 GND (power), 15 NC, 16 ~{OE} (in), 17 IO/Q (io), 18 IO/Q (io), 19 IO/Q (io), 20 IO/Q (io), 21 IO/Q (io), 22 NC, 23 IO/Q (io), 24 IO/Q (io), 25 IO/Q (io), 26 IO/Q (io), 27 IO/Q (io), 28 VCC (power)

## GAL20RA10B-20LP
designator U?
GAL20RA10 High Speed Asynchronous E²CMOS PLD Generic Array Logic: 5.0 V, 20 ns, Commercial Grade; Published: 17-Jul-2002; LatestRevisionDate: 04-Mar-2005; LatestRevisionNote: Stylized 3D Model Added.; DatasheetVersion: 20ra10_02, Jul-1997; PackageVersion: pkg_32, Aug-2005; PackageReference: PDIP24; Publisher: Altium Limited; PackageDescription: DIP; 24 Leads; Row Spacing 7.62 mm; Pitch 2.54 mm; Code_JEDEC: MS-001-AF; ComponentLink1Description: Manufacturer Link; ComponentLink1URL: http://www.latticesemi.com/products/spld/GAL/index.cfm; ComponentLink2Description: Datasheet; ComponentLink2URL: http://www.latticesemi.com/lit/docs/datasheets/pal_gal/20ra10.pdf
footprint PDIP24 (DIP; 24 Leads; Row Spacing 7.62 mm; Pitch 2.54 mm)
3D model DIP24 (DIP; 24 Leads; Row Spacing 7.62 mm; Pitch 2.54 mm)
pins: 1 ~{PL} (in), 2 IN (in), 3 IN (in), 4 IN (in), 5 IN (in), 6 IN (in), 7 IN (in), 8 IN (in), 9 IN (in), 10 IN (in), 11 IN (in), 12 GND (power), 13 ~{OE} (in), 14 IO/Q (io), 15 IO/Q (io), 16 IO/Q (io), 17 IO/Q (io), 18 IO/Q (io), 19 IO/Q (io), 20 IO/Q (io), 21 IO/Q (io), 22 IO/Q (io), 23 IO/Q (io), 24 VCC (power)

## GAL20RA10B-20LPI
designator U?
GAL20RA10 High Speed Asynchronous E²CMOS PLD Generic Array Logic: 5.0 V, 20 ns, Industrial Grade; Published: 17-Jul-2002; LatestRevisionDate: 04-Mar-2005; LatestRevisionNote: Stylized 3D Model Added.; DatasheetVersion: 20ra10_02, Jul-1997; PackageVersion: pkg_32, Aug-2005; PackageReference: PDIP24; Publisher: Altium Limited; PackageDescription: DIP; 24 Leads; Row Spacing 7.62 mm; Pitch 2.54 mm; Code_JEDEC: MS-001-AF; ComponentLink1Description: Manufacturer Link; ComponentLink1URL: http://www.latticesemi.com/products/spld/GAL/index.cfm; ComponentLink2Description: Datasheet; ComponentLink2URL: http://www.latticesemi.com/lit/docs/datasheets/pal_gal/20ra10.pdf
footprint PDIP24 (DIP; 24 Leads; Row Spacing 7.62 mm; Pitch 2.54 mm)
3D model DIP24 (DIP; 24 Leads; Row Spacing 7.62 mm; Pitch 2.54 mm)
pins: 1 ~{PL} (in), 2 IN (in), 3 IN (in), 4 IN (in), 5 IN (in), 6 IN (in), 7 IN (in), 8 IN (in), 9 IN (in), 10 IN (in), 11 IN (in), 12 GND (power), 13 ~{OE} (in), 14 IO/Q (io), 15 IO/Q (io), 16 IO/Q (io), 17 IO/Q (io), 18 IO/Q (io), 19 IO/Q (io), 20 IO/Q (io), 21 IO/Q (io), 22 IO/Q (io), 23 IO/Q (io), 24 VCC (power)

## GAL20RA10B-30LJ
designator U?
GAL20RA10 High Speed Asynchronous E²CMOS PLD Generic Array Logic: 5.0 V, 30 ns, Commercial Grade; Published: 17-Jul-2002; LatestRevisionDate: 13-Apr-2006; LatestRevisionNote: IPC-7351 Footprint Added.; DatasheetVersion: 20ra10_02, Jul-1997; PackageVersion: pkg_32, Aug-2005; PackageReference: PLCC28; Publisher: Altium Limited; PackageDescription: 28-Pin Leaded Chip Carrier 1.27 mm Pitch; Code_IPC: PLCC-28; ComponentLink1Description: Manufacturer Link; ComponentLink1URL: http://www.latticesemi.com/products/spld/GAL/index.cfm; ComponentLink2Description: Datasheet; ComponentLink2URL: http://www.latticesemi.com/lit/docs/datasheets/pal_gal/20ra10.pdf
footprint PLCC28_N (Leaded Chip Carrier, 28-Leads, Body 11.5x11.5mm, Pitch 1.27mm, IPC Medium Density)
footprint PLCC28_L (Leaded Chip Carrier, 28-Leads, Body 11.5x11.5mm, Pitch 1.27mm, IPC High Density)
footprint PLCC28_M (Leaded Chip Carrier, 28-Leads, Body 11.5x11.5mm, Pitch 1.27mm, IPC Low Density)
3D model 20RA10-PLCC28 (28-Pin Leaded Chip Carrier 1.27 mm Pitch)
pins: 1 NC, 2 ~{PL} (in), 3 IN (in), 4 IN (in), 5 IN (in), 6 IN (in), 7 IN (in), 8 NC, 9 IN (in), 10 IN (in), 11 IN (in), 12 IN (in), 13 IN (in), 14 GND (power), 15 NC, 16 ~{OE} (in), 17 IO/Q (io), 18 IO/Q (io), 19 IO/Q (io), 20 IO/Q (io), 21 IO/Q (io), 22 NC, 23 IO/Q (io), 24 IO/Q (io), 25 IO/Q (io), 26 IO/Q (io), 27 IO/Q (io), 28 VCC (power)

## GAL20RA10B-30LP
designator U?
GAL20RA10 High Speed Asynchronous E²CMOS PLD Generic Array Logic: 5.0 V, 30 ns, Commercial Grade; Published: 17-Jul-2002; LatestRevisionDate: 04-Mar-2005; LatestRevisionNote: Stylized 3D Model Added.; DatasheetVersion: 20ra10_02, Jul-1997; PackageVersion: pkg_32, Aug-2005; PackageReference: PDIP24; Publisher: Altium Limited; PackageDescription: DIP; 24 Leads; Row Spacing 7.62 mm; Pitch 2.54 mm; Code_JEDEC: MS-001-AF; ComponentLink1Description: Manufacturer Link; ComponentLink1URL: http://www.latticesemi.com/products/spld/GAL/index.cfm; ComponentLink2Description: Datasheet; ComponentLink2URL: http://www.latticesemi.com/lit/docs/datasheets/pal_gal/20ra10.pdf
footprint PDIP24 (DIP; 24 Leads; Row Spacing 7.62 mm; Pitch 2.54 mm)
3D model DIP24 (DIP; 24 Leads; Row Spacing 7.62 mm; Pitch 2.54 mm)
pins: 1 ~{PL} (in), 2 IN (in), 3 IN (in), 4 IN (in), 5 IN (in), 6 IN (in), 7 IN (in), 8 IN (in), 9 IN (in), 10 IN (in), 11 IN (in), 12 GND (power), 13 ~{OE} (in), 14 IO/Q (io), 15 IO/Q (io), 16 IO/Q (io), 17 IO/Q (io), 18 IO/Q (io), 19 IO/Q (io), 20 IO/Q (io), 21 IO/Q (io), 22 IO/Q (io), 23 IO/Q (io), 24 VCC (power)

## GAL20V8A-10LJ
designator U?
GAL20V8A High Performance E²CMOS PLD Generic Array Logic: 5.0 V, 10 ns, Commercial Grade; Note: Pins 1, 8, 15 and 22 are No internal Connection (NC) pins.; Published: 8-Jun-2000; LatestRevisionDate: 13-Apr-2006; LatestRevisionNote: IPC-7351 Footprint Added.; DatasheetVersion: May-1992; PackageVersion: pkg_32, Aug-2005; PackageReference: PLCC28; Publisher: Altium Limited; PackageDescription: 28-Pin Leaded Chip Carrier 1.27 mm Pitch; Code_IPC: PLCC-28; ComponentLink1Description: Manufacturer Link; ComponentLink1URL: http://www.latticesemi.com/products/spld/GAL/index.cfm
footprint PLCC28_N (Leaded Chip Carrier, 28-Leads, Body 11.5x11.5mm, Pitch 1.27mm, IPC Medium Density)
footprint PLCC28_L (Leaded Chip Carrier, 28-Leads, Body 11.5x11.5mm, Pitch 1.27mm, IPC High Density)
footprint PLCC28_M (Leaded Chip Carrier, 28-Leads, Body 11.5x11.5mm, Pitch 1.27mm, IPC Low Density)
3D model 20V8-PLCC28 (28-Pin Leaded Chip Carrier 1.27 mm Pitch)
pins: 1 NC, 2 IN/CLK (in), 3 IN (in), 4 IN (in), 5 IN (in), 6 IN (in), 7 IN (in), 8 NC, 9 IN (in), 10 IN (in), 11 IN (in), 12 IN (in), 13 IN (in), 14 GND (power), 15 NC, 16 IN/~{OE} (in), 17 IN (in), 18 IO/Q (io), 19 IO/Q (io), 20 IO/Q (io), 21 IO/Q (io), 22 NC, 23 IO/Q (io), 24 IO/Q (io), 25 IO/Q (io), 26 IO/Q (io), 27 IN (in), 28 VCC (power)

## GAL20V8A-10LP
designator U?
GAL20V8A High Performance E²CMOS PLD Generic Array Logic: 5.0 V, 10 ns, Commercial Grade; Published: 8-Jun-2000; LatestRevisionDate: 04-Mar-2005; LatestRevisionNote: Stylized 3D Model Added.; DatasheetVersion: May-1992; PackageVersion: pkg_32, Aug-2005; PackageReference: PDIP24; Publisher: Altium Limited; PackageDescription: DIP; 24 Leads; Row Spacing 7.62 mm; Pitch 2.54 mm; Code_JEDEC: MS-001-AF; ComponentLink1Description: Manufacturer Link; ComponentLink1URL: http://www.latticesemi.com/products/spld/GAL/index.cfm
footprint PDIP24 (DIP; 24 Leads; Row Spacing 7.62 mm; Pitch 2.54 mm)
3D model DIP24 (DIP; 24 Leads; Row Spacing 7.62 mm; Pitch 2.54 mm)
pins: 1 IN/CLK (in), 2 IN (in), 3 IN (in), 4 IN (in), 5 IN (in), 6 IN (in), 7 IN (in), 8 IN (in), 9 IN (in), 10 IN (in), 11 IN (in), 12 GND (power), 13 IN/~{OE} (in), 14 IN (in), 15 IO/Q (io), 16 IO/Q (io), 17 IO/Q (io), 18 IO/Q (io), 19 IO/Q (io), 20 IO/Q (io), 21 IO/Q (io), 22 IO/Q (io), 23 IN (in), 24 VCC (power)

## GAL20V8A-15LD/883
designator U?
GAL20V8A/883 High Performance E²CMOS PLD Generic Array Logic: 5.0 V, 15 ns, Military Grade; Published: 8-Jun-2000; LatestRevisionDate: 04-Mar-2005; LatestRevisionNote: Stylized 3D Model Added.; DatasheetVersion: May-1992; PackageVersion: pkg_32, Aug-2005; PackageReference: CDIP24; Publisher: Altium Limited; PackageDescription: CerDIP; 24 Leads; Row Spacing 7.62 mm; Pitch 2.54 mm; Code_JEDEC: MS-001-AF; ComponentLink1Description: Manufacturer Link; ComponentLink1URL: http://www.latticesemi.com/products/spld/GAL/index.cfm
footprint CDIP24 (CerDIP; 24 Leads; Row Spacing 7.62 mm; Pitch 2.54 mm)
3D model DIP24 (CerDIP; 24 Leads; Row Spacing 7.62 mm; Pitch 2.54 mm)
pins: 1 IN/CLK (in), 2 IN (in), 3 IN (in), 4 IN (in), 5 IN (in), 6 IN (in), 7 IN (in), 8 IN (in), 9 IN (in), 10 IN (in), 11 IN (in), 12 GND (power), 13 IN/~{OE} (in), 14 IN (in), 15 IO/Q (io), 16 IO/Q (io), 17 IO/Q (io), 18 IO/Q (io), 19 IO/Q (io), 20 IO/Q (io), 21 IO/Q (io), 22 IO/Q (io), 23 IN (in), 24 VCC (power)

## GAL20V8A-15LJ
designator U?
GAL20V8A High Performance E²CMOS PLD Generic Array Logic: 5.0 V, 15 ns, Commercial Grade; Note: Pins 1, 8, 15 and 22 are No internal Connection (NC) pins.; Published: 8-Jun-2000; LatestRevisionDate: 13-Apr-2006; LatestRevisionNote: IPC-7351 Footprint Added.; DatasheetVersion: May-1992; PackageVersion: pkg_32, Aug-2005; PackageReference: PLCC28; Publisher: Altium Limited; PackageDescription: 28-Pin Leaded Chip Carrier 1.27 mm Pitch; Code_IPC: PLCC-28; ComponentLink1Description: Manufacturer Link; ComponentLink1URL: http://www.latticesemi.com/products/spld/GAL/index.cfm
footprint PLCC28_N (Leaded Chip Carrier, 28-Leads, Body 11.5x11.5mm, Pitch 1.27mm, IPC Medium Density)
footprint PLCC28_L (Leaded Chip Carrier, 28-Leads, Body 11.5x11.5mm, Pitch 1.27mm, IPC High Density)
footprint PLCC28_M (Leaded Chip Carrier, 28-Leads, Body 11.5x11.5mm, Pitch 1.27mm, IPC Low Density)
3D model 20V8-PLCC28 (28-Pin Leaded Chip Carrier 1.27 mm Pitch)
pins: 1 NC, 2 IN/CLK (in), 3 IN (in), 4 IN (in), 5 IN (in), 6 IN (in), 7 IN (in), 8 NC, 9 IN (in), 10 IN (in), 11 IN (in), 12 IN (in), 13 IN (in), 14 GND (power), 15 NC, 16 IN/~{OE} (in), 17 IN (in), 18 IO/Q (io), 19 IO/Q (io), 20 IO/Q (io), 21 IO/Q (io), 22 NC, 23 IO/Q (io), 24 IO/Q (io), 25 IO/Q (io), 26 IO/Q (io), 27 IN (in), 28 VCC (power)

## GAL20V8A-15LP
designator U?
GAL20V8A High Performance E²CMOS PLD Generic Array Logic: 5.0 V, 15 ns, Commercial Grade; Published: 8-Jun-2000; LatestRevisionDate: 04-Mar-2005; LatestRevisionNote: Stylized 3D Model Added.; DatasheetVersion: May-1992; PackageVersion: pkg_32, Aug-2005; PackageReference: PDIP24; Publisher: Altium Limited; PackageDescription: DIP; 24 Leads; Row Spacing 7.62 mm; Pitch 2.54 mm; Code_JEDEC: MS-001-AF; ComponentLink1Description: Manufacturer Link; ComponentLink1URL: http://www.latticesemi.com/products/spld/GAL/index.cfm
footprint PDIP24 (DIP; 24 Leads; Row Spacing 7.62 mm; Pitch 2.54 mm)
3D model DIP24 (DIP; 24 Leads; Row Spacing 7.62 mm; Pitch 2.54 mm)
pins: 1 IN/CLK (in), 2 IN (in), 3 IN (in), 4 IN (in), 5 IN (in), 6 IN (in), 7 IN (in), 8 IN (in), 9 IN (in), 10 IN (in), 11 IN (in), 12 GND (power), 13 IN/~{OE} (in), 14 IN (in), 15 IO/Q (io), 16 IO/Q (io), 17 IO/Q (io), 18 IO/Q (io), 19 IO/Q (io), 20 IO/Q (io), 21 IO/Q (io), 22 IO/Q (io), 23 IN (in), 24 VCC (power)

## GAL20V8A-15LR/883
designator U?
GAL20V8/883 High Performance E²CMOS PLD Generic Array Logic: 5.0 V, 15 ns, Military Grade; Note: Pins 1, 8, 15 and 22 are No internal Connection (NC) pins.; Published: 8-Jun-2000; LatestRevisionDate: 17-Jul-2002; LatestRevisionNote: Name changed from GAL20V8A-15LR/883C; Re-released for DXP Platform.; DatasheetVersion: 1996; PackageVersion: pkg_32, Aug-2005; PackageReference: LCC28; Publisher: Altium Limited; PackageDescription: Leadless Chip Carrier; 28 Terminals; Body 11.5 x 11.5 mm; ComponentLink1Description: Manufacturer Link; ComponentLink1URL: http://www.latticesemi.com/products/spld/GAL/index.cfm
footprint LCC28 (Leadless Chip Carrier; 28 Terminals; Body 11.5 x 11.5 mm)
pins: 1 NC, 2 IN/CLK (in), 3 IN (in), 4 IN (in), 5 IN (in), 6 IN (in), 7 IN (in), 8 NC, 9 IN (in), 10 IN (in), 11 IN (in), 12 IN (in), 13 IN (in), 14 GND (power), 15 NC, 16 IN/~{OE} (in), 17 IN (in), 18 IO/Q (io), 19 IO/Q (io), 20 IO/Q (io), 21 IO/Q (io), 22 NC, 23 IO/Q (io), 24 IO/Q (io), 25 IO/Q (io), 26 IO/Q (io), 27 IN (in), 28 VCC (power)

## GAL20V8A-15QJ
designator U?
GAL20V8A High Performance E²CMOS PLD Generic Array Logic: 5.0 V, 15 ns, Commercial Grade; Note: Pins 1, 8, 15 and 22 are No internal Connection (NC) pins.; Published: 8-Jun-2000; LatestRevisionDate: 13-Apr-2006; LatestRevisionNote: IPC-7351 Footprint Added.; DatasheetVersion: May-1992; PackageVersion: pkg_32, Aug-2005; PackageReference: PLCC28; Publisher: Altium Limited; PackageDescription: 28-Pin Leaded Chip Carrier 1.27 mm Pitch; Code_IPC: PLCC-28; ComponentLink1Description: Manufacturer Link; ComponentLink1URL: http://www.latticesemi.com/products/spld/GAL/index.cfm
footprint PLCC28_N (Leaded Chip Carrier, 28-Leads, Body 11.5x11.5mm, Pitch 1.27mm, IPC Medium Density)
footprint PLCC28_L (Leaded Chip Carrier, 28-Leads, Body 11.5x11.5mm, Pitch 1.27mm, IPC High Density)
footprint PLCC28_M (Leaded Chip Carrier, 28-Leads, Body 11.5x11.5mm, Pitch 1.27mm, IPC Low Density)
3D model 20V8-PLCC28 (28-Pin Leaded Chip Carrier 1.27 mm Pitch)
pins: 1 NC, 2 IN/CLK (in), 3 IN (in), 4 IN (in), 5 IN (in), 6 IN (in), 7 IN (in), 8 NC, 9 IN (in), 10 IN (in), 11 IN (in), 12 IN (in), 13 IN (in), 14 GND (power), 15 NC, 16 IN/~{OE} (in), 17 IN (in), 18 IO/Q (io), 19 IO/Q (io), 20 IO/Q (io), 21 IO/Q (io), 22 NC, 23 IO/Q (io), 24 IO/Q (io), 25 IO/Q (io), 26 IO/Q (io), 27 IN (in), 28 VCC (power)

## GAL20V8A-15QP
designator U?
GAL20V8A High Performance E²CMOS PLD Generic Array Logic: 5.0 V, 15 ns, Commercial Grade; Published: 8-Jun-2000; LatestRevisionDate: 04-Mar-2005; LatestRevisionNote: Stylized 3D Model Added.; DatasheetVersion: May-1992; PackageVersion: pkg_32, Aug-2005; PackageReference: PDIP24; Publisher: Altium Limited; PackageDescription: DIP; 24 Leads; Row Spacing 7.62 mm; Pitch 2.54 mm; Code_JEDEC: MS-001-AF; ComponentLink1Description: Manufacturer Link; ComponentLink1URL: http://www.latticesemi.com/products/spld/GAL/index.cfm
footprint PDIP24 (DIP; 24 Leads; Row Spacing 7.62 mm; Pitch 2.54 mm)
3D model DIP24 (DIP; 24 Leads; Row Spacing 7.62 mm; Pitch 2.54 mm)
pins: 1 IN/CLK (in), 2 IN (in), 3 IN (in), 4 IN (in), 5 IN (in), 6 IN (in), 7 IN (in), 8 IN (in), 9 IN (in), 10 IN (in), 11 IN (in), 12 GND (power), 13 IN/~{OE} (in), 14 IN (in), 15 IO/Q (io), 16 IO/Q (io), 17 IO/Q (io), 18 IO/Q (io), 19 IO/Q (io), 20 IO/Q (io), 21 IO/Q (io), 22 IO/Q (io), 23 IN (in), 24 VCC (power)

## GAL20V8A-20LD/883
designator U?
GAL20V8A/883 High Performance E²CMOS PLD Generic Array Logic: 5.0 V, 20 ns, Military Grade; Published: 8-Jun-2000; LatestRevisionDate: 04-Mar-2005; LatestRevisionNote: Stylized 3D Model Added.; DatasheetVersion: May-1992; PackageVersion: pkg_32, Aug-2005; PackageReference: CDIP24; Publisher: Altium Limited; PackageDescription: CerDIP; 24 Leads; Row Spacing 7.62 mm; Pitch 2.54 mm; Code_JEDEC: MS-001-AF; ComponentLink1Description: Manufacturer Link; ComponentLink1URL: http://www.latticesemi.com/products/spld/GAL/index.cfm
footprint CDIP24 (CerDIP; 24 Leads; Row Spacing 7.62 mm; Pitch 2.54 mm)
3D model DIP24 (CerDIP; 24 Leads; Row Spacing 7.62 mm; Pitch 2.54 mm)
pins: 1 IN/CLK (in), 2 IN (in), 3 IN (in), 4 IN (in), 5 IN (in), 6 IN (in), 7 IN (in), 8 IN (in), 9 IN (in), 10 IN (in), 11 IN (in), 12 GND (power), 13 IN/~{OE} (in), 14 IN (in), 15 IO/Q (io), 16 IO/Q (io), 17 IO/Q (io), 18 IO/Q (io), 19 IO/Q (io), 20 IO/Q (io), 21 IO/Q (io), 22 IO/Q (io), 23 IN (in), 24 VCC (power)

## GAL20V8A-20LR/883
designator U?
GAL20V8/883 High Performance E²CMOS PLD Generic Array Logic: 5.0 V, 20 ns, Military Grade; Note: Pins 1, 8, 15 and 22 are No internal Connection (NC) pins.; Published: 8-Jun-2000; LatestRevisionDate: 17-Jul-2002; LatestRevisionNote: Name changed from GAL20V8A-20LR/883C; Re-released for DXP Platform.; DatasheetVersion: 1996; PackageVersion: pkg_32, Aug-2005; PackageReference: LCC28; Publisher: Altium Limited; PackageDescription: Leadless Chip Carrier; 28 Terminals; Body 11.5 x 11.5 mm; ComponentLink1Description: Manufacturer Link; ComponentLink1URL: http://www.latticesemi.com/products/spld/GAL/index.cfm
footprint LCC28 (Leadless Chip Carrier; 28 Terminals; Body 11.5 x 11.5 mm)
pins: 1 NC, 2 IN/CLK (in), 3 IN (in), 4 IN (in), 5 IN (in), 6 IN (in), 7 IN (in), 8 NC, 9 IN (in), 10 IN (in), 11 IN (in), 12 IN (in), 13 IN (in), 14 GND (power), 15 NC, 16 IN/~{OE} (in), 17 IN (in), 18 IO/Q (io), 19 IO/Q (io), 20 IO/Q (io), 21 IO/Q (io), 22 NC, 23 IO/Q (io), 24 IO/Q (io), 25 IO/Q (io), 26 IO/Q (io), 27 IN (in), 28 VCC (power)

## GAL20V8A-20QJI
designator U?
GAL20V8A High Performance E²CMOS PLD Generic Array Logic: 5.0 V, 20 ns, Industrial Grade; Note: Pins 1, 8, 15 and 22 are No internal Connection (NC) pins.; Published: 8-Jun-2000; LatestRevisionDate: 13-Apr-2006; LatestRevisionNote: IPC-7351 Footprint Added.; DatasheetVersion: May-1992; PackageVersion: pkg_32, Aug-2005; PackageReference: PLCC28; Publisher: Altium Limited; PackageDescription: 28-Pin Leaded Chip Carrier 1.27 mm Pitch; Code_IPC: PLCC-28; ComponentLink1Description: Manufacturer Link; ComponentLink1URL: http://www.latticesemi.com/products/spld/GAL/index.cfm
footprint PLCC28_N (Leaded Chip Carrier, 28-Leads, Body 11.5x11.5mm, Pitch 1.27mm, IPC Medium Density)
footprint PLCC28_L (Leaded Chip Carrier, 28-Leads, Body 11.5x11.5mm, Pitch 1.27mm, IPC High Density)
footprint PLCC28_M (Leaded Chip Carrier, 28-Leads, Body 11.5x11.5mm, Pitch 1.27mm, IPC Low Density)
3D model 20V8-PLCC28 (28-Pin Leaded Chip Carrier 1.27 mm Pitch)
pins: 1 NC, 2 IN/CLK (in), 3 IN (in), 4 IN (in), 5 IN (in), 6 IN (in), 7 IN (in), 8 NC, 9 IN (in), 10 IN (in), 11 IN (in), 12 IN (in), 13 IN (in), 14 GND (power), 15 NC, 16 IN/~{OE} (in), 17 IN (in), 18 IO/Q (io), 19 IO/Q (io), 20 IO/Q (io), 21 IO/Q (io), 22 NC, 23 IO/Q (io), 24 IO/Q (io), 25 IO/Q (io), 26 IO/Q (io), 27 IN (in), 28 VCC (power)

## GAL20V8A-20QPI
designator U?
GAL20V8A High Performance E²CMOS PLD Generic Array Logic: 5.0 V, 20 ns, Industrial Grade; Published: 8-Jun-2000; LatestRevisionDate: 04-Mar-2005; LatestRevisionNote: Stylized 3D Model Added.; DatasheetVersion: May-1992; PackageVersion: pkg_32, Aug-2005; PackageReference: PDIP24; Publisher: Altium Limited; PackageDescription: DIP; 24 Leads; Row Spacing 7.62 mm; Pitch 2.54 mm; Code_JEDEC: MS-001-AF; ComponentLink1Description: Manufacturer Link; ComponentLink1URL: http://www.latticesemi.com/products/spld/GAL/index.cfm
footprint PDIP24 (DIP; 24 Leads; Row Spacing 7.62 mm; Pitch 2.54 mm)
3D model DIP24 (DIP; 24 Leads; Row Spacing 7.62 mm; Pitch 2.54 mm)
pins: 1 IN/CLK (in), 2 IN (in), 3 IN (in), 4 IN (in), 5 IN (in), 6 IN (in), 7 IN (in), 8 IN (in), 9 IN (in), 10 IN (in), 11 IN (in), 12 GND (power), 13 IN/~{OE} (in), 14 IN (in), 15 IO/Q (io), 16 IO/Q (io), 17 IO/Q (io), 18 IO/Q (io), 19 IO/Q (io), 20 IO/Q (io), 21 IO/Q (io), 22 IO/Q (io), 23 IN (in), 24 VCC (power)

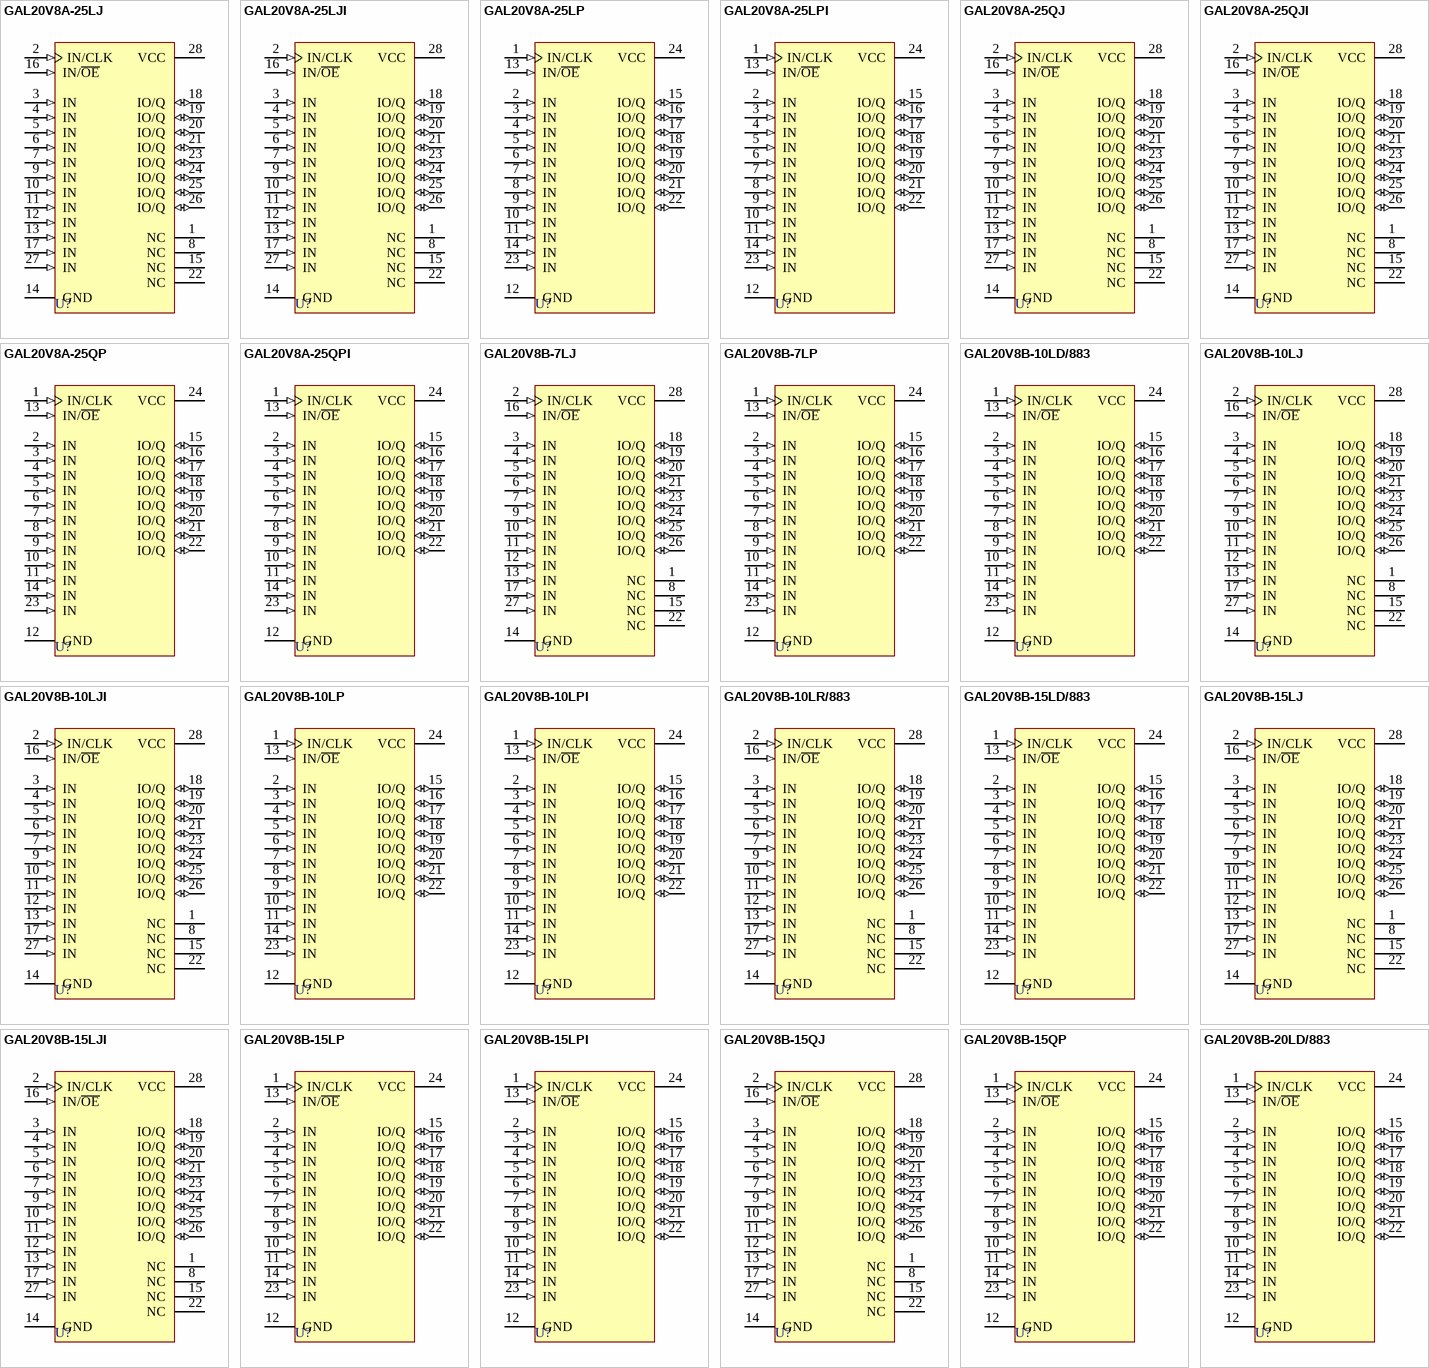
[diagram p6: symbols GAL20V8A-25LJ to GAL20V8B-20LD/883]

## GAL20V8A-25LJ
designator U?
GAL20V8A High Performance E²CMOS PLD Generic Array Logic: 5.0 V, 25 ns, Commercial Grade; Note: Pins 1, 8, 15 and 22 are No internal Connection (NC) pins.; Published: 8-Jun-2000; LatestRevisionDate: 13-Apr-2006; LatestRevisionNote: IPC-7351 Footprint Added.; DatasheetVersion: May-1992; PackageVersion: pkg_32, Aug-2005; PackageReference: PLCC28; Publisher: Altium Limited; PackageDescription: 28-Pin Leaded Chip Carrier 1.27 mm Pitch; Code_IPC: PLCC-28; ComponentLink1Description: Manufacturer Link; ComponentLink1URL: http://www.latticesemi.com/products/spld/GAL/index.cfm
footprint PLCC28_N (Leaded Chip Carrier, 28-Leads, Body 11.5x11.5mm, Pitch 1.27mm, IPC Medium Density)
footprint PLCC28_L (Leaded Chip Carrier, 28-Leads, Body 11.5x11.5mm, Pitch 1.27mm, IPC High Density)
footprint PLCC28_M (Leaded Chip Carrier, 28-Leads, Body 11.5x11.5mm, Pitch 1.27mm, IPC Low Density)
3D model 20V8-PLCC28 (28-Pin Leaded Chip Carrier 1.27 mm Pitch)
pins: 1 NC, 2 IN/CLK (in), 3 IN (in), 4 IN (in), 5 IN (in), 6 IN (in), 7 IN (in), 8 NC, 9 IN (in), 10 IN (in), 11 IN (in), 12 IN (in), 13 IN (in), 14 GND (power), 15 NC, 16 IN/~{OE} (in), 17 IN (in), 18 IO/Q (io), 19 IO/Q (io), 20 IO/Q (io), 21 IO/Q (io), 22 NC, 23 IO/Q (io), 24 IO/Q (io), 25 IO/Q (io), 26 IO/Q (io), 27 IN (in), 28 VCC (power)